# Altium footprint library IC-SMD.PCBLIB: 298 footprints (part 10 of 19)
Each footprint in its own frame and in the unit in brackets; x right, y up, seen from the top. Pads: shape width x height; smd on the part's side, far side on the other; paste and mask are expansions set on the pad; w line width, h text height; cw(c..) or ccw(c..) is an arc to the next point about the centre after c.
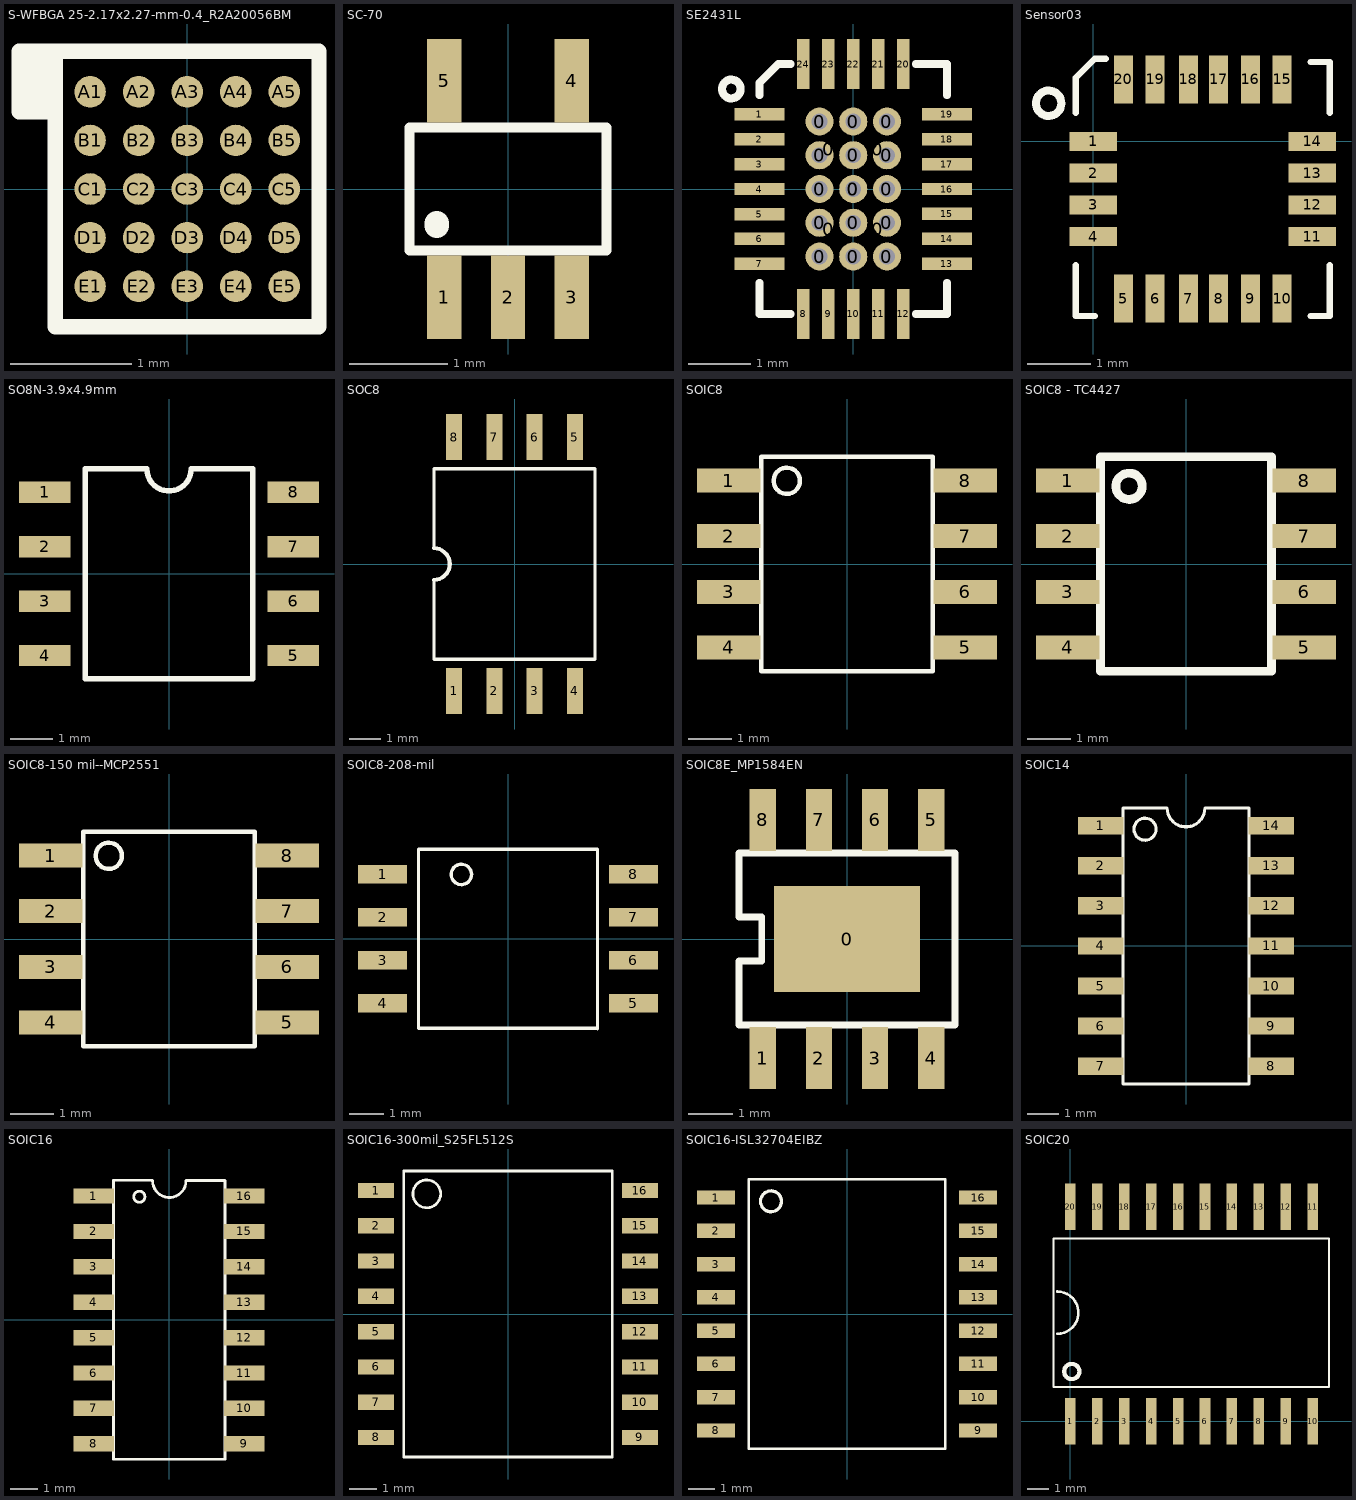
[diagram p9: the footprints below, top view; thin cyan lines are the x and y axes]

## S-WFBGA 25-2.17x2.27-mm-0.4_R2A20056BM [mm] "S-WFBGA 25-2.17x2.27-mm-0.4_R2A20056BM"
pads (25):
  round 0.26 smd mask+0.05: A1(-0.8,0.8) A2(-0.4,0.8) A3(0,0.8) A4(0.4,0.8) A5(0.8,0.8) B1(-0.8,0.4) B2(-0.4,0.4) B3(0,0.4) B4(0.4,0.4) B5(0.8,0.4) C1(-0.8,0) C2(-0.4,0) C3(0,0) C4(0.4,0) C5(0.8,0) D1(-0.8,-0.4) D2(-0.4,-0.4) D3(0,-0.4) D4(0.4,-0.4) D5(0.8,-0.4) E1(-0.8,-0.8) E2(-0.4,-0.8) E3(0,-0.8) E4(0.4,-0.8) E5(0.8,-0.8)
TopOverlay:
  rectangle: -1.385,0.635 -1.085,1.135
  lines w0.127: -1.085,0.635 -1.385,0.635 -1.385,1.135 -1.085,1.135 ; -1.085,1.135 1.085,1.135 1.085,-1.135 -1.085,-1.135 -1.085,1.135

## SC-70 [mm] "SC-70"
pads (5):
  rect 0.35x0.85 smd: 1(-0.65,-1.1) 2(0,-1.1) 3(0.65,-1.1) 4(0.65,1.1) 5(-0.65,1.1)
TopOverlay:
  lines w0.1: -1,-0.625 1,-0.625 1,0.625 -1,0.625 -1,-0.625
  lines w0.25: -0.725,-0.375 -0.725,-0.35

## SE2431L [mm]
pads (44):
  round 0.45 hole 0.25: 0(-0.54,-1.08) 0(-0.54,-0.54) 0(-0.54,0) 0(-0.54,0.54) 0(-0.54,1.08) 0(0,-1.08) 0(0,-0.54) 0(0,0) 0(0,0.54) 0(0,1.08) 0(0.54,-1.08) 0(0.54,-0.54) 0(0.54,0) 0(0.54,0.54) 0(0.54,1.08)
  rect 0.58x1.08 on Top Paste: 0(-0.39,-0.64) 0(-0.39,0.64) 0(0.39,-0.64) 0(0.39,0.64)
  rect 1.6x2.6 on Top Solder: 0(0,0)
  rect 0.8x0.2 smd: 1(-1.5,1.2) 2(-1.5,0.8) 3(-1.5,0.4) 4(-1.5,0) 5(-1.5,-0.4) 6(-1.5,-0.8) 7(-1.5,-1.2) 13(1.5,-1.2) 14(1.5,-0.8) 15(1.5,-0.4) 16(1.5,0) 17(1.5,0.4) 18(1.5,0.8) 19(1.5,1.2)
  rect 0.2x0.8 smd: 8(-0.8,-2) 9(-0.4,-2) 10(0,-2) 11(0.4,-2) 12(0.8,-2) 20(0.8,2) 21(0.4,2) 22(0,2) 23(-0.4,2) 24(-0.8,2)
TopOverlay:
  circle w0.127: c-1.95,1.6 r0.15
  lines w0.127: -1.5,-1.5 -1.5,-2 -1,-2 ; -1.5,1.5 -1.5,1.7 -1.2,2 -1,2 ; 1,-2 1.5,-2 1.5,-1.5 ; 1,2 1.5,2 1.5,1.5

## Sensor03 [mm]
pads (20):
  rect 0.75x0.3 smd: 1(0,0) 2(0,-0.5) 3(0,-1) 4(0,-1.5) 11(3.45,-1.5) 12(3.45,-1) 13(3.45,-0.5) 14(3.45,0)
  rect 0.3x0.75 smd: 5(0.475,-2.475) 6(0.975,-2.475) 7(1.5,-2.475) 8(1.975,-2.475) 9(2.475,-2.475) 10(2.975,-2.475) 15(2.975,0.975) 16(2.475,0.975) 17(1.975,0.975) 18(1.5,0.975) 19(0.975,0.975) 20(0.475,0.975)
TopOverlay:
  circle w0.127: c-0.7,0.6 r0.2
  lines w0.1: -0.275,-1.95 -0.275,-2.75 0.025,-2.75 ; -0.275,0.45 -0.275,1 0.025,1.3 0.2,1.3 ; 3.425,-2.75 3.725,-2.75 3.725,-1.95 ; 3.425,1.25 3.725,1.25 3.725,0.45

## SO8N-3.9x4.9mm [mm] "SO8N-3.9x4.9mm"
pads (8):
  rect 1.2x0.5 smd: 1(-2.9,1.905) 2(-2.9,0.635) 3(-2.9,-0.635) 4(-2.9,-1.905) 5(2.9,-1.905) 6(2.9,-0.635) 7(2.9,0.635) 8(2.9,1.905)
TopOverlay:
  lines w0.127: -1.95,-2.45 1.95,-2.45 1.95,2.45 0.517,2.45 cw(c0,2.45) -0.517,2.45 -1.95,2.45 -1.95,-2.45

## SOC8 [mm]
pads (8):
  rect 0.5x1.45 smd: 1(-1.905,-4) 2(-0.635,-4) 3(0.635,-4) 4(1.905,-4) 5(1.905,4) 6(0.635,4) 7(-0.635,4) 8(-1.905,4)
TopOverlay:
  lines w0.1: -2.54,0.5 -2.54,3 2.54,3 2.54,-3 -2.54,-3 -2.536,-0.5
  lines w0.127: -2.534,-0.5 ccw(c-2.54,0) -2.532,0.5

## SOIC8 [mm] "SOIC8"
pads (8):
  rect 1.45x0.55 smd: 1(-2.7,1.905) 2(-2.7,0.635) 3(-2.7,-0.635) 4(-2.7,-1.905) 5(2.7,-1.905) 6(2.7,-0.635) 7(2.7,0.635) 8(2.7,1.905)
TopOverlay:
  circle w0.1: c-1.375,1.9 r0.3
  lines w0.1: -1.955,-2.45 1.955,-2.45 1.955,2.45 -1.955,2.45 -1.955,-2.45

## SOIC8 - TC4427 [mm] "SOIC8 - TC4427"
pads (8):
  rect 1.45x0.55 smd: 1(-2.7,1.905) 2(-2.7,0.635) 3(-2.7,-0.635) 4(-2.7,-1.905) 5(2.7,-1.905) 6(2.7,-0.635) 7(2.7,0.635) 8(2.7,1.905)
TopOverlay:
  circle w0.2: c-1.3,1.775 r0.3
  lines w0.2: -1.95,-2.45 -1.95,2.45 1.95,2.45 1.95,-2.45 -1.95,-2.45

## SOIC8-150 mil--MCP2551 [mm] "SOIC8-150 mil--MCP2551"
pads (8):
  rect 1.45x0.55 smd: 1(-2.7,1.905) 2(-2.7,0.635) 3(-2.7,-0.635) 4(-2.7,-1.905) 5(2.7,-1.905) 6(2.7,-0.635) 7(2.7,0.635) 8(2.7,1.905)
TopOverlay:
  circle w0.1: c-1.375,1.9 r0.3
  lines w0.1: -1.955,-2.45 1.955,-2.45 1.955,2.45 -1.955,2.45 -1.955,-2.45

## SOIC8-208-mil [mm] "SOIC8-208-mil"
pads (8):
  rect 1.45x0.55 smd: 1(-3.7,1.905) 2(-3.7,0.635) 3(-3.7,-0.635) 4(-3.7,-1.905) 5(3.7,-1.905) 6(3.7,-0.635) 7(3.7,0.635) 8(3.7,1.905)
TopOverlay:
  circle w0.1: c-1.375,1.9 r0.3
  lines w0.1: 2.64,-2.65 2.64,2.64 -2.64,2.64 -2.64,-2.64 2.64,-2.64

## SOIC8E_MP1584EN [mm] "SOIC8E_MP1584EN"
pads (9):
  rect 3.3x2.41 smd: 0(0,0)
  rect 0.6x1.4 smd: 1(-1.905,-2.7) 2(-0.635,-2.7) 3(0.635,-2.7) 4(1.905,-2.7) 5(1.905,2.7) 6(0.635,2.7) 7(-0.635,2.7) 8(-1.905,2.7)
TopOverlay:
  lines w0.152: -2.45,-0.5 -2.45,-1.95 2.45,-1.95 2.45,1.95 -2.45,1.95 -2.45,0.5 ; -2.442,-0.5 -1.934,-0.5 -1.934,0.5 -2.442,0.5

## SOIC14 [mm] "SOIC14"
pads (14):
  rect 1.45x0.55 smd: 1(-2.7,3.81) 2(-2.7,2.54) 3(-2.7,1.27) 4(-2.7,0) 5(-2.7,-1.27) 6(-2.7,-2.54) 7(-2.7,-3.81) 8(2.7,-3.81) 9(2.7,-2.54) 10(2.7,-1.27) 11(2.7,0) 12(2.7,1.27) 13(2.7,2.54) 14(2.7,3.81)
TopOverlay:
  circle w0.1: c-1.3,3.7 r0.35
  lines w0.1: -0.611,4.375 -2,4.375 -2,-4.375 2,-4.375 2,4.375 0.6,4.375 cw(c0,4.375) -0.6,4.375

## SOIC16 [mm] "SOIC16"
pads (16):
  rect 1.45x0.55 smd: 1(-2.7,4.445) 2(-2.7,3.175) 3(-2.7,1.905) 4(-2.7,0.635) 5(-2.7,-0.635) 6(-2.7,-1.905) 7(-2.7,-3.175) 8(-2.7,-4.445) 9(2.7,-4.445) 10(2.7,-3.175) 11(2.7,-1.905) 12(2.7,-0.635) 13(2.7,0.635) 14(2.7,1.905) 15(2.7,3.175) 16(2.7,4.445)
TopOverlay:
  circle w0.1: c-1.064,4.42 r0.2
  lines w0.1: -0.6,5.015 -1.989,5.015 -1.989,-5 2.011,-5 2.011,5 ; -0.589,4.995 ccw(c0.011,4.995) 0.611,4.995 ; 0.611,5.005 2.011,5.005

## SOIC16-300mil_S25FL512S [mm] "SOIC16-300mil_S25FL512S"
pads (16):
  rect 1.3x0.55 smd: 1(-4.75,4.445) 2(-4.75,3.175) 3(-4.75,1.905) 4(-4.75,0.635) 5(-4.75,-0.635) 6(-4.75,-1.905) 7(-4.75,-3.175) 8(-4.75,-4.445) 9(4.75,-4.445) 10(4.75,-3.175) 11(4.75,-1.905) 12(4.75,-0.635) 13(4.75,0.635) 14(4.75,1.905) 15(4.75,3.175) 16(4.75,4.445)
TopOverlay:
  circle w0.1: c-2.925,4.325 r0.5
  lines w0.1: -3.75,-5.15 -3.75,5.15 3.75,5.15 3.75,-5.15 -3.75,-5.15

## SOIC16-ISL32704EIBZ [mm] "SOIC16-ISL32704EIBZ"
pads (16):
  rect 1.45x0.55 smd: 1(-5,4.445) 2(-5,3.175) 3(-5,1.905) 4(-5,0.635) 5(-5,-0.635) 6(-5,-1.905) 7(-5,-3.175) 8(-5,-4.445) 9(5,-4.445) 10(5,-3.175) 11(5,-1.905) 12(5,-0.635) 13(5,0.635) 14(5,1.905) 15(5,3.175) 16(5,4.445)
TopOverlay:
  circle w0.127: c-2.9,4.3 r0.4
  lines w0.1: -3.75,-5.14 3.75,-5.14 3.75,5.14 -3.75,5.14 -3.75,-5.14

## SOIC20 [mm]
pads (20):
  rect 0.5x2.2 smd: 1(0,0) 2(1.27,0) 3(2.54,0) 4(3.81,0) 5(5.08,0) 6(6.35,0) 7(7.62,0) 8(8.89,0) 9(10.16,0) 10(11.43,0) 11(11.43,10.127) 12(10.16,10.127) 13(8.89,10.127) 14(7.62,10.127) 15(6.35,10.127) 16(5.08,10.127) 17(3.81,10.127) 18(2.54,10.127) 19(1.27,10.127) 20(0,10.127)
TopOverlay:
  circle w0.2: c0.066,2.351 r0.359
  lines w0.1: -0.795,1.627 -0.795,8.627 12.205,8.627 12.205,1.627 -0.795,1.627
  lines w0.127: -0.622,4.127 ccw(c-0.622,5.127) -0.622,6.127